# Altium footprint library 3M Footprints.PcbLib: 3 footprints
Each footprint in its own frame and in the unit in brackets; x right, y up, seen from the top. Pads: shape width x height; smd on the part's side, far side on the other; paste and mask are expansions set on the pad; w line width, h text height; cw(c..) or ccw(c..) is an arc to the next point about the centre after c.
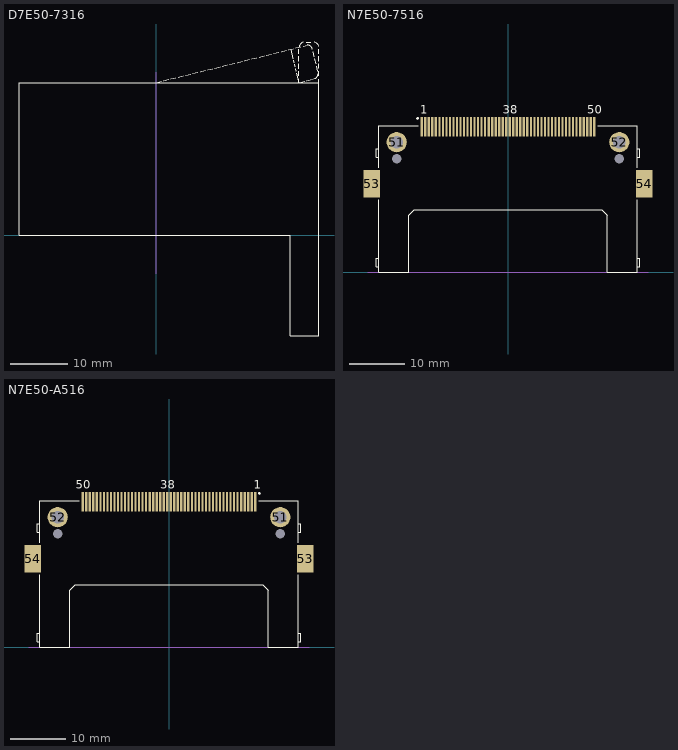
[diagram p0: the footprints below, top view; thin cyan lines are the x and y axes]

## D7E50-7316 [mm] "Ejector for CompactFlash Card Header, Type I; Right Button"
height 7.2
Top Overlay:
  lines w0.2: 0,26.5 0.875,26.717 ; 1.28,26.81 2.156,27.028 ; 2.56,27.13 3.435,27.347 ; 3.84,27.45 4.715,27.667 ; 5.115,27.763 5.99,27.98 ; 6.386,28.081 7.26,28.298 ; 7.666,28.398 8.541,28.615 ; 8.944,28.705 9.818,28.922 ; 10.224,29.015 11.099,29.234 ; 11.501,29.348 12.376,29.564 ; 12.78,29.663 13.655,29.879 ; 14.061,29.98 14.936,30.197 ; 15.339,30.306 16.203,30.512 ; 16.608,30.612 17.483,30.828 ; 17.881,30.927 18.756,31.144 ; 19.159,31.251 20.024,31.457 ; 20.43,31.557 21.305,31.772 ; 21.708,31.872 22.583,32.089 ; 22.983,32.197 23.848,32.403 ; 23.362,32.289 23.752,30.652 ; 23.822,30.378 23.922,29.944 ; 23.991,29.66 24.091,29.226 ; 24.175,28.896 24.275,28.462 ; 24.252,32.503 25.127,32.719 ; 24.359,28.137 24.749,26.5 ; 24.764,26.5 25.799,26.759 ; 24.775,26.5 24.775,27.1 ; 24.779,27.641 24.779,28.441 ; 24.779,28.937 24.779,29.737 ; 24.779,30.233 24.779,31.033 ; 24.779,31.465 24.779,32.265 ; 24.859,32.75 cw(c25.729,32.635) 25.582,33.5 ; 25.531,32.819 26.268,33.018 ; 26.094,26.829 27.129,27.088 ; 26.093,33.5 26.893,33.5 ; 26.291,33.026 cw(c26.262,32.149) 27.127,32.296 ; 27.212,31.878 27.412,31.02 ; 27.406,27.171 ccw(c27.26,28.035) 28.136,28.006 ; 27.444,33.494 cw(c27.415,32.618) 28.28,32.764 ; 27.503,30.652 27.703,29.794 ; 27.511,30.652 27.711,29.794 ; 27.825,29.35 28.025,28.492 ; 28.28,27.1 28.28,26.5 ; 28.28,27.644 28.28,28.444 ; 28.28,28.94 28.28,29.74 ; 28.28,30.236 28.28,31.036 ; 28.28,31.468 28.28,32.268 ; 28.28,26.5 -23.82,26.5 -23.82,0 23.34,0 23.34,-17.5 28.28,-17.5 28.28,0 28.28,26.5
Mechanical 1:
  lines w0.1: 0,-6.75 0,28.25 0,26.55

## N7E50-7516 [mm] "Connector; CompactFlash Card Header, SM; Normal Polarization; 50 Position; Right Angle; Pitch 0.635 mm"
height 6.72
pads (56):
  rect 0.4x3.5 smd: 1(-15.557,26.3) 2(-14.287,26.3) 3(-13.017,26.3) 4(-11.747,26.3) 5(-10.477,26.3) 6(-9.207,26.3) 7(-7.937,26.3) 8(-6.667,26.3) 9(-5.397,26.3) 10(-4.127,26.3) 11(-2.857,26.3) 12(-1.587,26.3) 13(-0.317,26.3) 14(0.953,26.3) 15(2.223,26.3) 16(3.493,26.3) 17(4.763,26.3) 18(6.033,26.3) 19(7.303,26.3) 20(8.573,26.3) 21(9.843,26.3) 22(11.113,26.3) 23(12.383,26.3) 24(13.653,26.3) 25(14.923,26.3) 26(-14.922,26.3) 27(-13.652,26.3) 28(-12.383,26.3) 29(-11.112,26.3) 30(-9.842,26.3) 31(-8.572,26.3) 32(-7.302,26.3) 33(-6.032,26.3) 34(-4.762,26.3) 35(-3.492,26.3) 36(-2.222,26.3) 37(-0.952,26.3) 38(0.318,26.3) 39(1.588,26.3) 40(2.858,26.3) 41(4.128,26.3) 42(5.398,26.3) 43(6.668,26.3) 44(7.938,26.3) 45(9.208,26.3) 46(10.478,26.3) 47(11.748,26.3) 48(13.018,26.3) 49(14.288,26.3) 50(15.558,26.3)
  round 3.65 hole 2.2: 51(-20.08,23.5) 52(20.08,23.5)
  rect 3x5 smd: 53(-24.565,16) 54(24.565,16)
  round 1.4 hole 1.7 unplated: 55(-20.08,20.5) 56(20.08,20.5)
Top Overlay:
  circle w0.25: c-16.3,27.8 r0.125
  lines w0.2: -23.3,1 -23.8,1 -23.8,2.54 -23.3,2.54 ; -23.3,13.1 -23.3,0 -17.95,0 -17.95,10.3 -16.95,11.3 16.95,11.3 17.95,10.3 17.95,0 23.3,0 23.3,13.1 ; -23.3,18.9 -23.3,26.5 -16.16,26.5 ; -23.3,20.76 -23.8,20.76 -23.8,22.3 -23.3,22.3 ; 16.16,26.5 23.3,26.5 23.3,18.9 ; 23.3,1 23.8,1 23.8,2.54 23.3,2.54 ; 23.3,20.76 23.8,20.76 23.8,22.3 23.3,22.3
  text "38" at -0.907,28.6 h1.5
  text "1" at -15.807,28.6 h1.5
  text "50" at 14.308,28.6 h1.5
Mechanical 1:
  lines w0.1: -25.3,0 25.3,0
  text "PCB Edge" at -17.3,0.45 h0.6

## N7E50-A516 [mm] "Connector; CompactFlash Card Header, SM; lnverse Polarization; 50 Position; Right Angle; Pitch 0.635 mm"
height 6.72
pads (56):
  rect 0.4x3.5 smd: 1(15.558,26.3) 2(14.288,26.3) 3(13.018,26.3) 4(11.748,26.3) 5(10.478,26.3) 6(9.208,26.3) 7(7.938,26.3) 8(6.668,26.3) 9(5.398,26.3) 10(4.128,26.3) 11(2.858,26.3) 12(1.588,26.3) 13(0.318,26.3) 14(-0.952,26.3) 15(-2.222,26.3) 16(-3.492,26.3) 17(-4.762,26.3) 18(-6.032,26.3) 19(-7.302,26.3) 20(-8.572,26.3) 21(-9.842,26.3) 22(-11.112,26.3) 23(-12.382,26.3) 24(-13.652,26.3) 25(-14.922,26.3) 26(14.923,26.3) 27(13.653,26.3) 28(12.383,26.3) 29(11.113,26.3) 30(9.843,26.3) 31(8.573,26.3) 32(7.303,26.3) 33(6.033,26.3) 34(4.763,26.3) 35(3.493,26.3) 36(2.223,26.3) 37(0.953,26.3) 38(-0.317,26.3) 39(-1.587,26.3) 40(-2.857,26.3) 41(-4.127,26.3) 42(-5.397,26.3) 43(-6.667,26.3) 44(-7.937,26.3) 45(-9.207,26.3) 46(-10.477,26.3) 47(-11.747,26.3) 48(-13.017,26.3) 49(-14.287,26.3) 50(-15.557,26.3)
  round 3.65 hole 2.2: 51(20.08,23.5) 52(-20.08,23.5)
  rect 3x5 smd: 53(24.565,16) 54(-24.565,16)
  round 1.4 hole 1.7 unplated: 55(20.08,20.5) 56(-20.08,20.5)
Top Overlay:
  circle w0.25: c16.3,27.8 r0.125
  lines w0.2: -23.3,1 -23.8,1 -23.8,2.54 -23.3,2.54 ; -23.3,13.1 -23.3,0 -17.95,0 -17.95,10.3 -16.95,11.3 16.95,11.3 17.95,10.3 17.95,0 23.3,0 23.3,13.1 ; -23.3,18.9 -23.3,26.5 -16.16,26.5 ; -23.3,20.76 -23.8,20.76 -23.8,22.3 -23.3,22.3 ; 16.16,26.5 23.3,26.5 23.3,18.9 ; 23.3,1 23.8,1 23.8,2.54 23.3,2.54 ; 23.3,20.76 23.8,20.76 23.8,22.3 23.3,22.3
  text "1" at 15.308,28.6 h1.5
  text "50" at -16.807,28.6 h1.5
  text "38" at -1.567,28.6 h1.5
Mechanical 1:
  lines w0.1: -25.3,0 25.3,0
  text "PCB Edge" at -17.3,0.45 h0.6